# Altium schematic symbol library RAZ-2405S.SchLib: 1 symbol
Pins are listed as number, name and electrical type; pins without a type are passive.

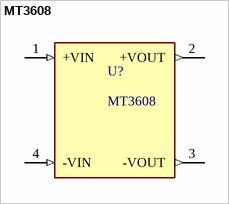
[diagram p0: symbol MT3608]

## MT3608
designator U?
Step up DC/DC
footprint CONV_RAZ-2405S
pins: 1 +VIN (in), 2 +VOUT (out), 3 -VOUT (out), 4 -VIN (in)